# Altium footprint library PcbLib1.PcbLib: 6 footprints
Each footprint in its own frame and in the unit in brackets; x right, y up, seen from the top. Pads: shape width x height; smd on the part's side, far side on the other; paste and mask are expansions set on the pad; w line width, h text height; cw(c..) or ccw(c..) is an arc to the next point about the centre after c.
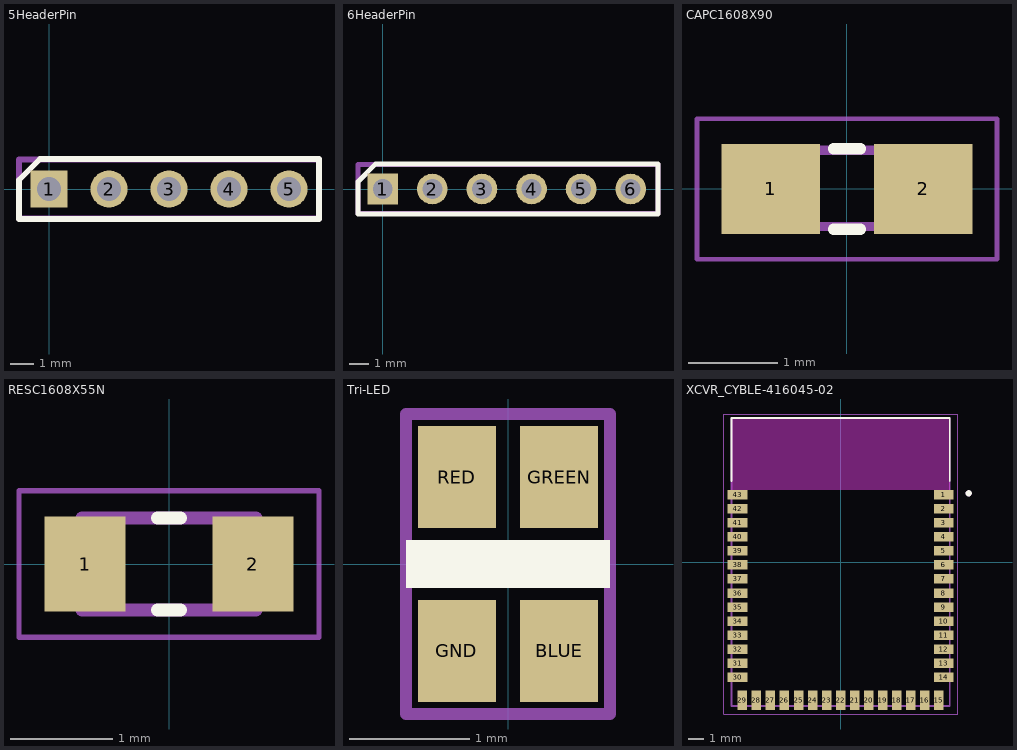
[diagram p0: the footprints below, top view; thin cyan lines are the x and y axes]

## 5HeaderPin [mm]
pads (5):
  rect 1.575x1.575 hole 1.02: 1(0,0)
  round 1.575 hole 1.02: 2(2.54,0) 3(5.08,0) 4(7.62,0) 5(10.16,0)
Top Overlay:
  lines w0.254: -1.27,-1.27 -1.27,0.38 -0.38,1.27 11.43,1.27 11.43,-1.27 -1.27,-1.27
Mechanical 29:
  lines w0.254: -1.27,-1.245 11.43,-1.245 11.43,1.245 -1.27,1.245 -1.27,-1.245 ; -0.33,-0.33 0.33,-0.33 0.33,0.33 -0.33,0.33 -0.33,-0.33
  text ".Designator" at -1.17,1.503 h0.4
3D body: height 2.29, standoff 0, extent -1.27,-1.245 11.43,1.245
3D body: height 17.78, standoff -3.1, extent -0.33,-0.33 10.56,0.33

## 6HeaderPin [mm]
pads (6):
  rect 1.575x1.575 hole 1.02: 1(0,0)
  round 1.575 hole 1.02: 2(2.54,0) 3(5.08,0) 4(7.62,0) 5(10.16,0) 6(12.7,0)
Top Overlay:
  lines w0.254: -1.27,-1.27 14.097,-1.27 14.097,-0.635 14.097,0.635 14.097,1.27 -0.38,1.27 -1.27,0.38 -1.27,-1.27
Mechanical 29:
  lines w0.254: -0.33,-0.335 -0.33,0.325 ; -0.33,-0.33 0.33,-0.33 ; -0.33,0.33 0.33,0.33 ; 0.33,-0.335 0.33,0.325 ; -1.27,-1.245 14.1,-1.245 14.1,1.245 -1.27,1.245 -1.27,-1.245
  text ".Designator" at -1.17,1.503 h0.4
3D body: height 17.78, standoff -3.1, extent -0.33,-0.33 13.081,0.33
3D body: height 2.29, standoff 0, extent -1.27,-1.245 13.97,1.245

## CAPC1608X90 [mm]
pads (2):
  rect 1.1x1 smd: 1(-0.85,0) 2(0.85,0)
Top Overlay:
  lines w0.127: -0.15,-0.45 0.15,-0.45 ; -0.15,0.45 0.15,0.45
Mechanical 13:
  region: 0.83,-0.471 0.331,-0.471 0.331,0.48 0.83,0.48
  region: -0.338,-0.47 -0.839,-0.47 -0.839,0.48 -0.338,0.48
  lines w0.102: -0.356,-0.419 0.356,-0.419 ; -0.356,0.432 0.356,0.432
Mechanical 15:
  lines w0.051: -1.673,-0.783 -1.673,0.783 1.673,0.783 1.673,-0.783 -1.673,-0.783

## RESC1608X55N [mm]
pads (2):
  rect 0.79x0.93 smd: 1(-0.82,0) 2(0.82,0)
Top Overlay:
  lines w0.127: -0.11,-0.45 0.11,-0.45 ; -0.11,0.45 0.11,0.45
Mechanical 13:
  lines w0.127: -0.85,-0.45 0.85,-0.45 0.85,0.45 -0.85,0.45 -0.85,-0.45
Mechanical 15:
  lines w0.05: -1.465,-0.715 1.465,-0.715 1.465,0.715 -1.465,0.715 -1.465,-0.715

## Tri-LED [mm]
pads (4):
  rect 0.65x0.85 smd: BLUE(0.425,-0.725) GND(-0.425,-0.725) GREEN(0.425,0.725) RED(-0.425,0.725)
Top Overlay:
  rectangle: -0.85,-0.2 0.85,0.2
Mechanical 29:
  lines w0.1: -0.85,-1.25 0.85,-1.25 0.85,1.25 -0.85,1.25 -0.85,-1.25
  text ".Designator" at -0.7,-0.067 h0.4
3D body: height 0.35, standoff 0, extent -0.875,-1.275 0.875,1.275

## XCVR_CYBLE-416045-02 [mm]
pads (43):
  rect 1.27x0.61 smd: 1(6.62,4.32) 2(6.62,3.42) 3(6.62,2.52) 4(6.62,1.62) 5(6.62,0.71) 6(6.62,-0.19) 7(6.62,-1.09) 8(6.62,-1.99) 9(6.62,-2.89) 10(6.62,-3.79) 11(6.62,-4.7) 12(6.62,-5.6) 13(6.62,-6.5) 14(6.62,-7.4) 30(-6.62,-7.4) 31(-6.62,-6.5) 32(-6.62,-5.6) 33(-6.62,-4.7) 34(-6.62,-3.79) 35(-6.62,-2.89) 36(-6.62,-1.99) 37(-6.62,-1.09) 38(-6.62,-0.19) 39(-6.62,0.71) 40(-6.62,1.62) 41(-6.62,2.52) 42(-6.62,3.42) 43(-6.62,4.32)
  rect 0.61x1.27 smd: 15(6.31,-8.87) 16(5.41,-8.87) 17(4.51,-8.87) 18(3.61,-8.87) 19(2.71,-8.87) 20(1.8,-8.87) 21(0.9,-8.87) 22(0,-8.87) 23(-0.9,-8.87) 24(-1.8,-8.87) 25(-2.7,-8.87) 26(-3.61,-8.87) 27(-4.51,-8.87) 28(-5.41,-8.87) 29(-6.31,-8.87)
Top Overlay:
  circle w0.2: c8.216,4.41 r0.1
  lines w0.127: -7,5.2 -7,9.25 7,9.25 7,5.2
Keep-Out Layer:
  region: 7,4.65 -7,4.65 -7,9.25 7,9.25
  region: 7,4.65 -7,4.65 -7,9.25 7,9.25
  region: 7,4.65 -7,4.65 -7,9.25 7,9.25
Mechanical 13:
  circle w0.2: c8.215,4.41 r0.1
  lines w0.127: -7,-9.25 7,-9.25 7,9.25 -7,9.25 -7,-9.25
Mechanical 15:
  lines w0.05: -7.505,-9.755 -7.505,9.5 7.505,9.5 7.505,-9.755 -7.505,-9.755